# Altium footprint library CHEMI-CON_EKMG451ELL100MK20S.PcbLib: 1 footprints
Each footprint in its own frame and in the unit in brackets; x right, y up, seen from the top. Pads: shape width x height; smd on the part's side, far side on the other; paste and mask are expansions set on the pad; w line width, h text height; cw(c..) or ccw(c..) is an arc to the next point about the centre after c.
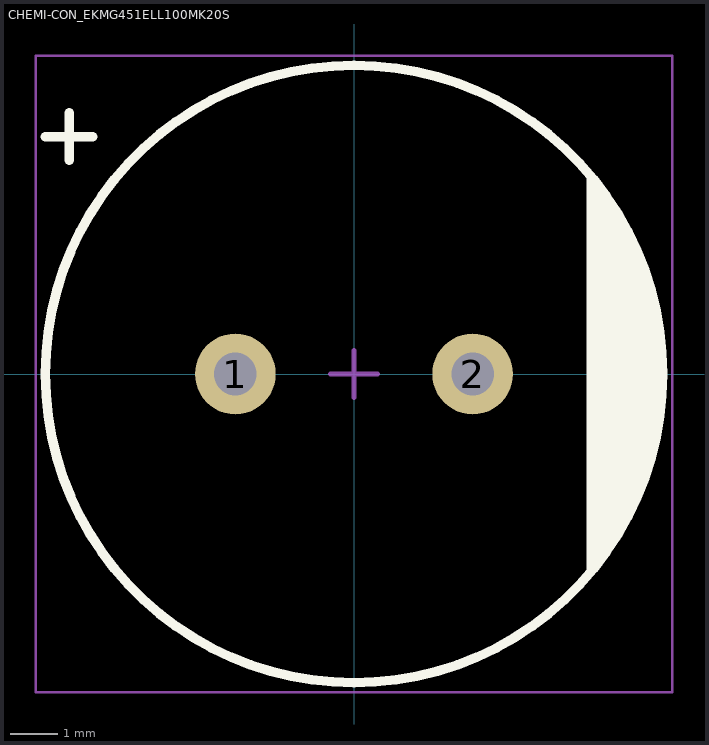
[diagram p0: the footprint, top view; thin cyan lines are the x and y axes]

## CHEMI-CON_EKMG451ELL100MK20S [mm] "CHEMI-CON_EKMG451ELL100MK20S"
height 21.5
pads (2):
  round 1.7 hole 0.9 mask+0.05: 1(-2.5,0) 2(2.5,0)
Top Overlay:
  circle w0.2: c0,0 r6.5
  region: 4.9,-4.271 4.9,4.271 5.155,3.978 5.593,3.335 5.95,2.644 6.223,1.916 6.407,1.161 6.5,0.389 6.5,-0.389 6.407,-1.161 6.223,-1.916 5.95,-2.644 5.593,-3.335 5.155,-3.978
  lines w0.2: -6.5,5 -5.5,5 ; -6,4.5 -6,5.5
Mechanical 13:
  circle w0.1: c0,0 r6.5
Mechanical 15:
  lines w0.05: -6.7,-6.7 -6.7,6.7 6.7,6.7 6.7,-6.7 -6.7,-6.7
  lines w0.1: -0.5,0 0.5,0 ; 0,-0.5 0,0.5
3D body: height 20, standoff 0, extent -6.25,-6.25 6.25,6.25